# EAGLE library part 7V_DCMOTOR (library Engine_Stroke)
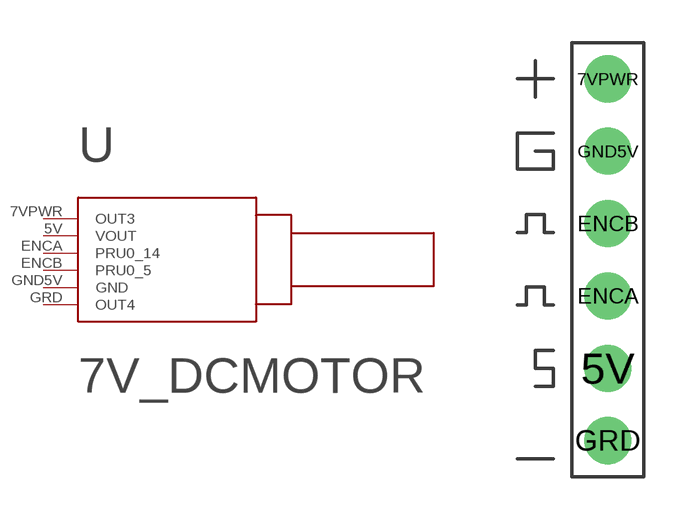
[diagram p0: symbol with the pads of 7V_DCMOTOR; footprint 7V_DCMOTOR]

Designator prefix -

## 7V_DCMOTOR  [7V_DCMOTOR]
5V  VOUT
7VPWR  OUT3
ENCA  PRU0_14
ENCB  PRU0_5
GND5V  GND
GRD  OUT4

## Footprint 7V_DCMOTOR (pad centres in mm)
drill 0.889 pad 1.651: 5V 1.27,-3.81; 7VPWR 1.27,6.35; ENCA 1.27,-1.27; ENCB 1.27,1.27; GND5V 1.27,3.81; GRD 1.27,-6.35